# EAGLE library part MCP9803 (library clock)
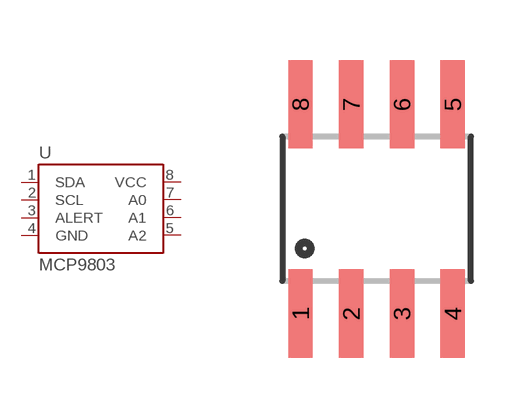
[diagram p4: symbol with the pads of SO08; footprint SO08]

Designator prefix -

## MCP9803"  [SO08]
1  SDA
2  SCL
3  ALERT
4  GND
5  A2
6  A1
7  A0
8  VCC

## Footprint SO08 (pad centres in mm)
Small Outline Package Fits JEDEC packages (narrow SOIC-8)
smd 0.61 x 2.21: 1 -1.905,-2.616; 2 -0.635,-2.616; 3 0.635,-2.616; 4 1.905,-2.616; 5 1.905,2.616; 6 0.635,2.616; 7 -0.635,2.616; 8 -1.905,2.616